# Altium schematic symbol library BAL-NRF01D3.SchLib: 1 symbol
Pins are listed as number, name and electrical type; pins without a type are passive.

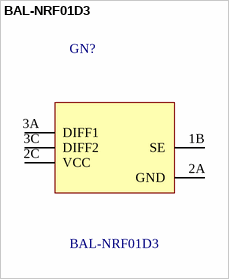
[diagram p0: symbol BAL-NRF01D3]

## BAL-NRF01D3
designator GN?
50Î© nominal input / conjugate match balun to nRF24LE1 & nRF51822-QFAA, with integrated harmonic filter; MF: STMicroelectronics; Price: 0.38 USD; MP: BAL-NRF01D3; Availability: Good; Package: WFBGA-5 STMicroelectronics; Value: *
footprint FCBGA-5N_BAL-NRF01D3(Primary)
pins: 1B SE, 2A GND, 2C VCC, 3A DIFF1, 3C DIFF2